# EAGLE library part MAX1708EEE+ (library SamacSys_Parts)
High-Frequency, High-Power, Low-Noise, Step-Up DC-DC Converter Source: Datasheet <https://componentsearchengine.com/Datasheets/1/MAX1708EEE .pdf>
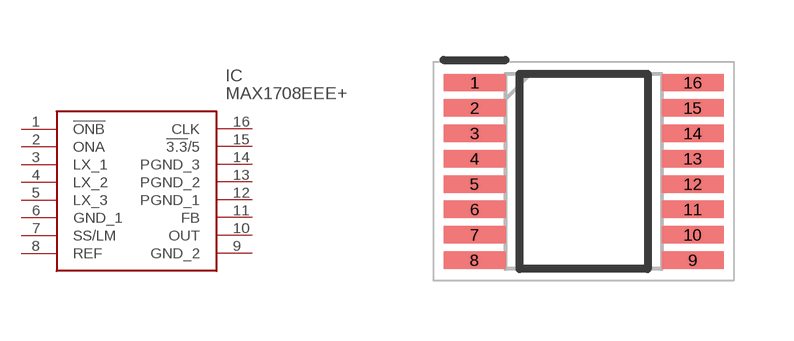
[diagram p2: symbol with the pads of SOP64P602X175-16N; footprint SOP64P602X175-16N]

Designator prefix IC

## MAX1708EEE+ (Description: High-Frequency, High-Power, Low-Noise, Step-Up DC-DC Converter; Height: 1.75mm; Manufacturer_Name: Maxim Integrated; Manufacturer_Part_Number: MAX1708EEE+; Mouser_Part_Number: 700-MAX1708EEE; Mouser_Price-Stock: https://www.mouser.com/Search/Refine.aspx?Keyword=700-MAX1708EEE)  [SOP64P602X175-16N]
1  !ONB
2  ONA
3  LX_1
4  LX_2
5  LX_3
6  GND_1  pwr
7  SS/LM
8  REF  in
9  GND_2  pwr
10  OUT  out
11  FB
12  PGND_1  pwr
13  PGND_2  pwr
14  PGND_3  pwr
15  !3.3!/5
16  CLK  in

## Footprint SOP64P602X175-16N (pad centres in mm)
MAX 21-0055_O
smd 1.55 x 0.435: 1 -2.725,2.222; 2 -2.725,1.588; 3 -2.725,0.952; 4 -2.725,0.318; 5 -2.725,-0.318; 6 -2.725,-0.952; 7 -2.725,-1.588; 8 -2.725,-2.222; 9 2.725,-2.222; 10 2.725,-1.588; 11 2.725,-0.952; 12 2.725,-0.318; 13 2.725,0.318; 14 2.725,0.952; 15 2.725,1.588; 16 2.725,2.222